# Altium footprint library Screw.PcbLib: 4 footprints
Each footprint in its own frame and in the unit in brackets; x right, y up, seen from the top. Pads: shape width x height; smd on the part's side, far side on the other; paste and mask are expansions set on the pad; w line width, h text height; cw(c..) or ccw(c..) is an arc to the next point about the centre after c.
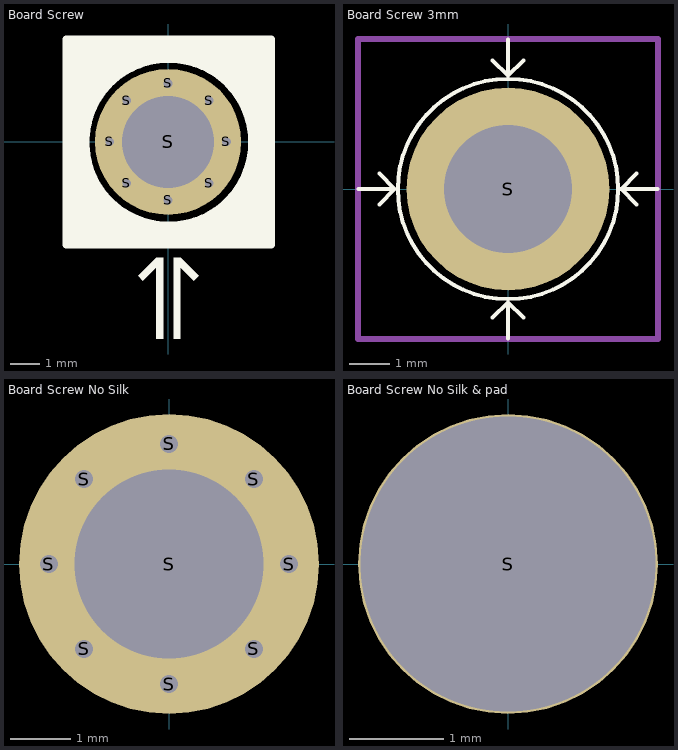
[diagram p0: the footprints below, top view; thin cyan lines are the x and y axes]

## Board Screw [mm]
pads (9):
  round 0.6 hole 0.3: S(-2,0) S(-1.414,-1.414) S(-1.414,1.414) S(0,-2) S(0,2) S(1.414,-1.414) S(1.414,1.414) S(2,0)
  round 5 hole 3.15 mask+0.1: S(0,0)
Top Overlay:
  circle w0.889: c0.025,-0.012 r3.165
  region: -0.156,-3.957 -0.41,-3.957 -0.41,-6.751 -0.156,-6.751
  region: -1.038,-4.586 -0.859,-4.765 -0.23,-4.137 -0.41,-3.957
  rectangle: 0.179,-6.751 0.433,-3.957
  region: 0.433,-3.957 0.253,-4.137 0.882,-4.765 1.062,-4.586
  region: -3.492,3.505 -3.489,3.508 -0.749,3.508 -0.749,3.458 -3.492,0.716
  region: 3.559,3.508 3.556,3.51 0.816,3.51 0.816,3.461 3.559,0.718
  region: 3.559,-3.526 3.556,-3.528 0.816,-3.528 0.816,-3.479 3.559,-0.736
  region: -3.492,-3.528 -3.489,-3.531 -0.749,-3.531 -0.749,-3.482 -3.492,-0.739
  lines w0.254: -3.494,-3.511 -3.494,3.522 3.539,3.522 ; -3.492,-3.528 3.542,-3.528 3.542,3.505
Bottom Overlay:
  circle w0.889: c0.025,-0.012 r3.165
  region: -3.492,-3.528 -3.489,-3.531 -0.749,-3.531 -0.749,-3.482 -3.492,-0.739
  region: 3.559,-3.526 3.556,-3.528 0.816,-3.528 0.816,-3.479 3.559,-0.736
  region: 3.559,3.508 3.556,3.51 0.816,3.51 0.816,3.461 3.559,0.718
  region: -3.492,3.505 -3.489,3.508 -0.749,3.508 -0.749,3.458 -3.492,0.716
  lines w0.254: -3.494,-3.511 -3.494,3.522 3.539,3.522 ; -3.492,-3.528 3.542,-3.528 3.542,3.505
3D body "User Library-User Library-4-40 x _125 sems.STEP": height 2.34, standoff -3, extent -2.667,-2.642 2.692,2.718

## Board Screw 3mm [mm]
pads (1):
  round 5 hole 3.15 mask+0.1: S(0,0)
Top Overlay:
  circle w0.1: c0,0 r2.718
  lines w0.1: -3.683,0 -2.794,0 ; -3.175,-0.381 -2.794,0 ; -3.175,0.381 -2.794,0 ; -0.381,-3.175 0,-2.794 ; -0.381,3.175 0,2.794 ; 0,-3.683 0,-2.794 ; 0,3.683 0,2.794 ; 0.381,-3.175 0,-2.794 ; 0.381,3.175 0,2.794 ; 2.718,0 3.683,0 ; 3.175,-0.381 2.794,0 3.175,0.381
Mechanical 15:
  lines w0.15: -3.7,-3.7 -3.7,3.7 3.7,3.7 3.7,-3.7 -3.7,-3.7
3D body "User Library-User Library-4-40 x _125 sems.STEP": height 2.34, standoff -3, extent -2.667,-2.642 2.692,2.718

## Board Screw No Silk [mm]
pads (9):
  round 0.6 hole 0.3: S(-2,0) S(-1.414,-1.414) S(-1.414,1.414) S(0,-2) S(0,2) S(1.414,-1.414) S(1.414,1.414) S(2,0)
  round 5 hole 3.15 mask+0.1: S(0,0)
3D body "User Library-User Library-4-40 x _125 sems.STEP": height 2.34, standoff -3, extent -2.667,-2.667 2.692,2.692

## Board Screw No Silk & pad [mm]
pads (1):
  round 3.2 hole 3.15: S(0,0)